# EAGLE library part GY-63 (library u_block_M8)
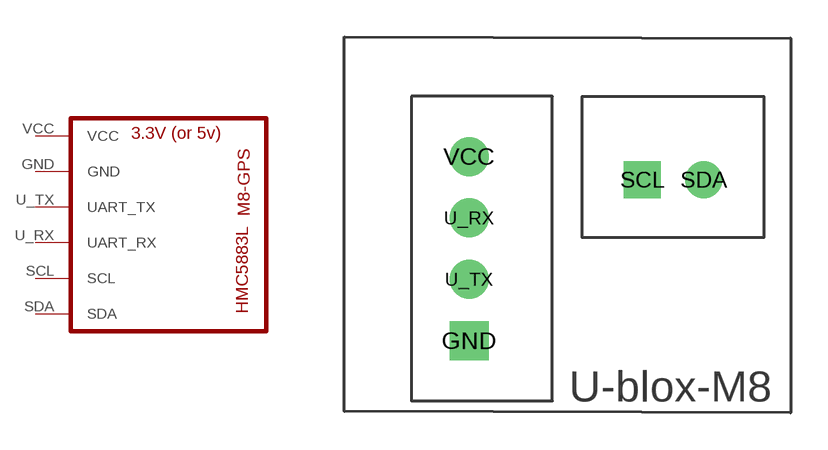
[diagram p0: symbol with the pads of U-BLOX; footprint U-BLOX]

Designator prefix U

## GY-63MS5611  [U-BLOX]
GND  GND
SCL  SCL
SDA  SDA
U_RX  UART_RX
U_TX  UART_TX
VCC  VCC

## Footprint U-BLOX (pad centres in mm)
drill 1.06 square: GND -10.16,-7.62
drill 1 square: SCL -3.098,-1.07
drill 1: SDA -0.598,-1.07
drill 1.06: U_RX -10.16,-2.62; U_TX -10.16,-5.12; VCC -10.16,-0.12